# Altium footprint library bunny_brain_D.PcbLib: 23 footprints (part 2 of 2)
Each footprint in its own frame and in the unit in brackets; x right, y up, seen from the top. Pads: shape width x height; smd on the part's side, far side on the other; paste and mask are expansions set on the pad; w line width, h text height; cw(c..) or ccw(c..) is an arc to the next point about the centre after c.
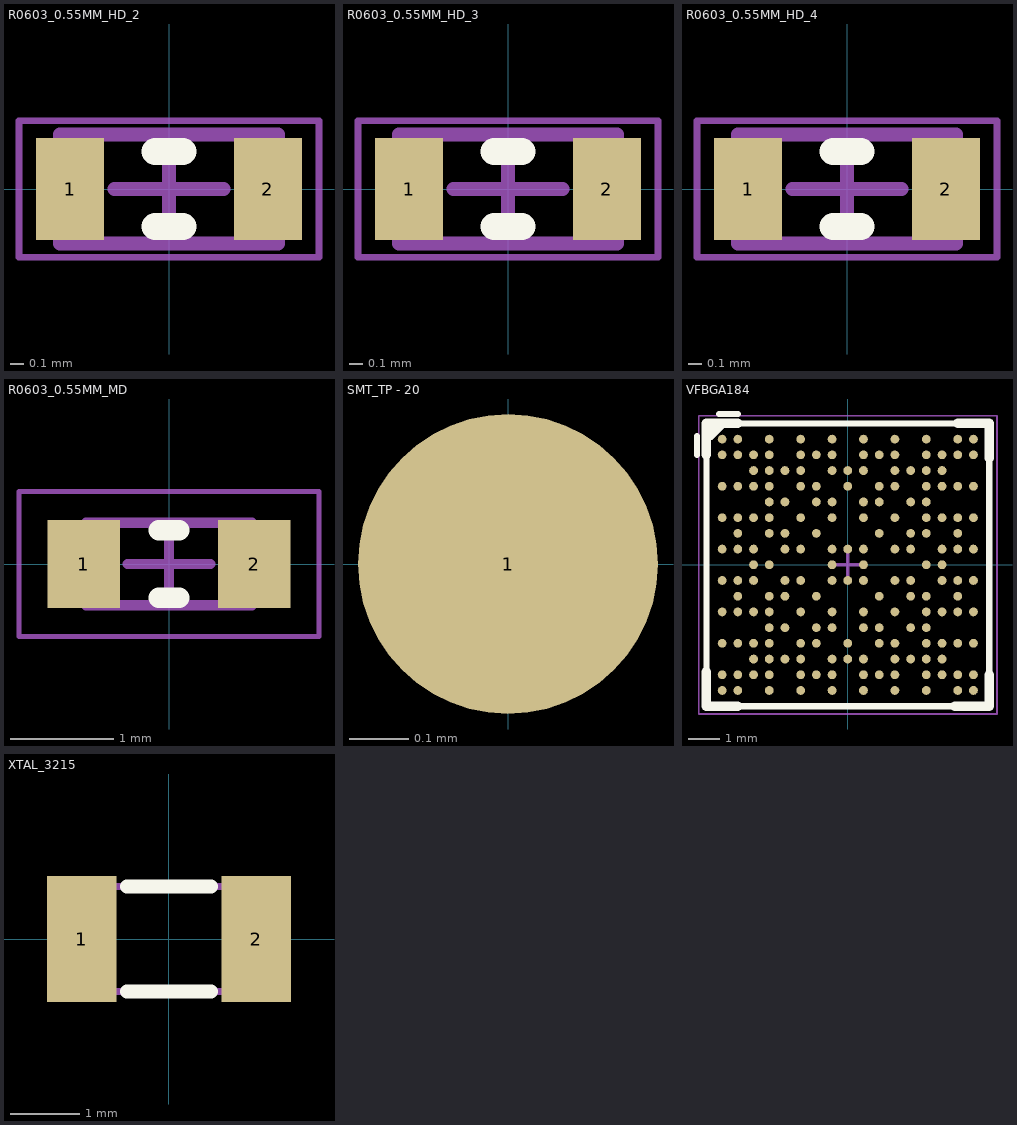
[diagram p1: the footprints below, top view; thin cyan lines are the x and y axes]

## R0603_0.55MM_HD_2 [mm]
pads (2):
  rect 0.5x0.75 smd: 1(-0.725,0) 2(0.725,0)
Top Overlay:
  lines w0.2: -0.1,-0.275 0.1,-0.275 ; -0.1,0.275 0.1,0.275
Mechanical 13:
  lines w0.1: -0.8,-0.4 0.8,-0.4 0.8,0.4 -0.8,0.4 -0.8,-0.4
Mechanical 15:
  lines w0.05: -1.1,-0.5 1.1,-0.5 1.1,0.5 -1.1,0.5 -1.1,-0.5
  lines w0.1: -0.4,0 0.4,0 ; 0,-0.4 0,0.4
3D body "RESC1608X06L.step": height 0.55, standoff 0, extent -0.8,-0.4 0.8,0.4

## R0603_0.55MM_HD_3 [mm]
pads (2):
  rect 0.5x0.75 smd: 1(-0.725,0) 2(0.725,0)
Top Overlay:
  lines w0.2: -0.1,-0.275 0.1,-0.275 ; -0.1,0.275 0.1,0.275
Mechanical 13:
  lines w0.1: -0.8,-0.4 0.8,-0.4 0.8,0.4 -0.8,0.4 -0.8,-0.4
Mechanical 15:
  lines w0.05: -1.1,-0.5 1.1,-0.5 1.1,0.5 -1.1,0.5 -1.1,-0.5
  lines w0.1: -0.4,0 0.4,0 ; 0,-0.4 0,0.4
3D body "RESC1608X06L.step": height 0.55, standoff 0, extent -0.8,-0.4 0.8,0.4

## R0603_0.55MM_HD_4 [mm]
pads (2):
  rect 0.5x0.75 smd: 1(-0.725,0) 2(0.725,0)
Top Overlay:
  lines w0.2: -0.1,-0.275 0.1,-0.275 ; -0.1,0.275 0.1,0.275
Mechanical 13:
  lines w0.1: -0.8,-0.4 0.8,-0.4 0.8,0.4 -0.8,0.4 -0.8,-0.4
Mechanical 15:
  lines w0.05: -1.1,-0.5 1.1,-0.5 1.1,0.5 -1.1,0.5 -1.1,-0.5
  lines w0.1: -0.4,0 0.4,0 ; 0,-0.4 0,0.4
3D body "RESC1608X06L.step": height 0.55, standoff 0, extent -0.8,-0.4 0.8,0.4

## R0603_0.55MM_MD [mm] "Resistor 0603 Medium Density"
height 0.55
pads (2):
  rect 0.7x0.85 smd: 1(-0.825,0) 2(0.825,0)
Top Overlay:
  lines w0.2: -0.1,-0.325 0.1,-0.325 ; -0.1,0.325 0.1,0.325
Mechanical 13:
  lines w0.1: -0.8,-0.4 0.8,-0.4 0.8,0.4 -0.8,0.4 -0.8,-0.4
Mechanical 15:
  lines w0.05: -1.45,-0.7 1.45,-0.7 1.45,0.7 -1.45,0.7 -1.45,-0.7
  lines w0.1: -0.4,0 0.4,0 ; 0,-0.4 0,0.4
3D body "RESC1608X06N.step": height 0.55, standoff 0, extent -0.8,-0.4 0.8,0.4

## SMT_TP - 20 [mil] ".020\" SMT Test pad"
height 109.06
pads (1):
  round 20 smd paste-25: 1(0,0)

## VFBGA184 [mm] "VFBGA184"
height 0.98
pads (184):
  round 0.28 smd mask+0.05: A1(-4,4) A2(-3.5,4) A4(-2.5,4) A6(-1.5,4) A8(-0.5,4) A10(0.5,4) A12(1.5,4) A14(2.5,4) A16(3.5,4) A17(4,4) B1(-4,3.5) B2(-3.5,3.5) B3(-3,3.5) B4(-2.5,3.5) B6(-1.5,3.5) B7(-1,3.5) B8(-0.5,3.5) B10(0.5,3.5) B11(1,3.5) B12(1.5,3.5) B14(2.5,3.5) B15(3,3.5) B16(3.5,3.5) B17(4,3.5) C3(-3,3) C4(-2.5,3) C5(-2,3) C6(-1.5,3) C8(-0.5,3) C9(0,3) C10(0.5,3) C12(1.5,3) C13(2,3) C14(2.5,3) C15(3,3) D1(-4,2.5) D2(-3.5,2.5) D3(-3,2.5) D4(-2.5,2.5) D6(-1.5,2.5) D7(-1,2.5) D9(0,2.5) D11(1,2.5) D12(1.5,2.5) D14(2.5,2.5) D15(3,2.5) D16(3.5,2.5) D17(4,2.5) E4(-2.5,2) E5(-2,2) E7(-1,2) E8(-0.5,2) E10(0.5,2) E11(1,2) E13(2,2) E14(2.5,2) F1(-4,1.5) F2(-3.5,1.5) F3(-3,1.5) F4(-2.5,1.5) F6(-1.5,1.5) F8(-0.5,1.5) F10(0.5,1.5) F12(1.5,1.5) F14(2.5,1.5) F15(3,1.5) F16(3.5,1.5) F17(4,1.5) G2(-3.5,1) G4(-2.5,1) G5(-2,1) G7(-1,1) G11(1,1) G13(2,1) G14(2.5,1) G16(3.5,1) H1(-4,0.5) H2(-3.5,0.5) H3(-3,0.5) H5(-2,0.5) H6(-1.5,0.5) H8(-0.5,0.5) H9(0,0.5) H10(0.5,0.5) H12(1.5,0.5) H13(2,0.5) H15(3,0.5) H16(3.5,0.5) H17(4,0.5) J3(-3,0) J4(-2.5,0) J8(-0.5,0) J10(0.5,0) J14(2.5,0) J15(3,0) K1(-4,-0.5) K2(-3.5,-0.5) K3(-3,-0.5) K5(-2,-0.5) K6(-1.5,-0.5) K8(-0.5,-0.5) K9(0,-0.5) K10(0.5,-0.5) K12(1.5,-0.5) K13(2,-0.5) K15(3,-0.5) K16(3.5,-0.5) K17(4,-0.5) L2(-3.5,-1) L4(-2.5,-1) L5(-2,-1) L7(-1,-1) L11(1,-1) L13(2,-1) L14(2.5,-1) L16(3.5,-1) M1(-4,-1.5) M2(-3.5,-1.5) M3(-3,-1.5) M4(-2.5,-1.5) M6(-1.5,-1.5) M8(-0.5,-1.5) M10(0.5,-1.5) M12(1.5,-1.5) M14(2.5,-1.5) M15(3,-1.5) M16(3.5,-1.5) M17(4,-1.5) N4(-2.5,-2) N5(-2,-2) N7(-1,-2) N8(-0.5,-2) N10(0.5,-2) N11(1,-2) N13(2,-2) N14(2.5,-2) P1(-4,-2.5) P2(-3.5,-2.5) P3(-3,-2.5) P4(-2.5,-2.5) P6(-1.5,-2.5) P7(-1,-2.5) P9(0,-2.5) P11(1,-2.5) P12(1.5,-2.5) P14(2.5,-2.5) P15(3,-2.5) P16(3.5,-2.5) P17(4,-2.5) R3(-3,-3) R4(-2.5,-3) R5(-2,-3) R6(-1.5,-3) R8(-0.5,-3) R9(0,-3) R10(0.5,-3) R12(1.5,-3) R13(2,-3) R14(2.5,-3) R15(3,-3) T1(-4,-3.5) T2(-3.5,-3.5) T3(-3,-3.5) T4(-2.5,-3.5) T6(-1.5,-3.5) T7(-1,-3.5) T8(-0.5,-3.5) T10(0.5,-3.5) T11(1,-3.5) T12(1.5,-3.5) T14(2.5,-3.5) T15(3,-3.5) T16(3.5,-3.5) T17(4,-3.5) U1(-4,-4) U2(-3.5,-4) U4(-2.5,-4) U6(-1.5,-4) U8(-0.5,-4) U10(0.5,-4) U12(1.5,-4) U14(2.5,-4) U16(3.5,-4) U17(4,-4)
Top Overlay:
  lines w0.2: -4.8,3.5 -4.8,4.1 ; -4.1,4.8 -3.5,4.8 ; -4.498,-4.5 4.5,-4.5 4.5,4.5 -4.498,4.5 -4.498,-4.5
  lines w0.3: -4.5,-3.4 -4.5,-4.5 -3.5,-4.5 ; -4.5,3.5 -4.5,4.5 -3.5,4.5 ; -4.5,4.1 -4.4,4.1 -4.05,4.45 ; 3.4,-4.5 4.5,-4.5 4.5,-3.5 ; 3.5,4.5 4.5,4.5 4.5,3.4
Bottom Assembly:
  text ".Designator" at -3.146,-1.704 h5
Top Courtyard:
  lines w0.05: -4.75,-4.75 4.75,-4.75 4.75,4.75 -4.75,4.75 -4.75,-4.75
  lines w0.1: -0.5,0 0.5,0 ; 0,-0.5 0,0.5
Top Assembly:
  lines w0.1: -4.5,-4.5 4.5,-4.5 4.5,4.5 -4.5,4.5 -4.5,-4.5
3D body "NXP-MCXN947-AP214 v0.step": height 0.91, standoff 0.01, extent -4.5,-4.525 4.5,4.475

## XTAL_3215 [mm] "XTAL SMD 3.2 x 1.5 mm"
height 0.8
pads (2):
  rect 1x1.8 smd: 1(-1.25,0) 2(1.25,0)
Top Overlay:
  lines w0.2: -0.6,-0.75 0.6,-0.75 ; -0.6,0.75 0.6,0.75
Mechanical 7:
  lines w0.1: -1.6,-0.75 1.6,-0.75 1.6,0.75 -1.6,0.75 -1.6,-0.75
Mechanical 15:
  lines w0.1: -1.6,-0.55 cw(c-1.6,-0.75) -1.4,-0.75 1.4,-0.75 cw(c1.6,-0.75) 1.6,-0.55 1.6,0.55 cw(c1.6,0.75) 1.4,0.75 -1.4,0.75 cw(c-1.6,0.75) -1.6,0.55 -1.6,-0.55
3D body "User Library-Siward_SX3215.step": height 0.81, standoff 0, extent -1.6,-0.75 1.6,0.75
3D body: height 0.81, standoff 0.15, extent -1.2,-0.6 1.2,0.6